# EAGLE library part 146134-18 (library con-tyco-mod-II)
HEADER
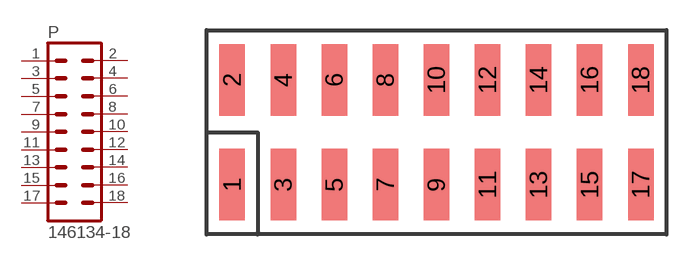
[diagram p6: symbol with the pads of 146134-18; footprint 146134-18]

Designator prefix P

## 146134-18  [146134-18]
1  1  pas
2  2  pas
3  3  pas
4  4  pas
5  5  pas
6  6  pas
7  7  pas
8  8  pas
9  9  pas
10  10  pas
11  11  pas
12  12  pas
13  13  pas
14  14  pas
15  15  pas
16  16  pas
17  17  pas
18  18  pas

## Footprint 146134-18 (pad centres in mm)
HEADER
smd 1.27 x 3.556: 1 -10.16,-2.603; 2 -10.16,2.603; 3 -7.62,-2.603; 4 -7.62,2.603; 5 -5.08,-2.603; 6 -5.08,2.603; 7 -2.54,-2.603; 8 -2.54,2.603; 9 0,-2.603; 10 0,2.603; 11 2.54,-2.603; 12 2.54,2.603; 13 5.08,-2.603; 14 5.08,2.603; 15 7.62,-2.603; 16 7.62,2.603; 17 10.16,-2.603; 18 10.16,2.603